# Altium footprint library VQFN_RHA.PcbLib: 1 footprints
Each footprint in its own frame and in the unit in brackets; x right, y up, seen from the top. Pads: shape width x height; smd on the part's side, far side on the other; paste and mask are expansions set on the pad; w line width, h text height; cw(c..) or ccw(c..) is an arc to the next point about the centre after c.
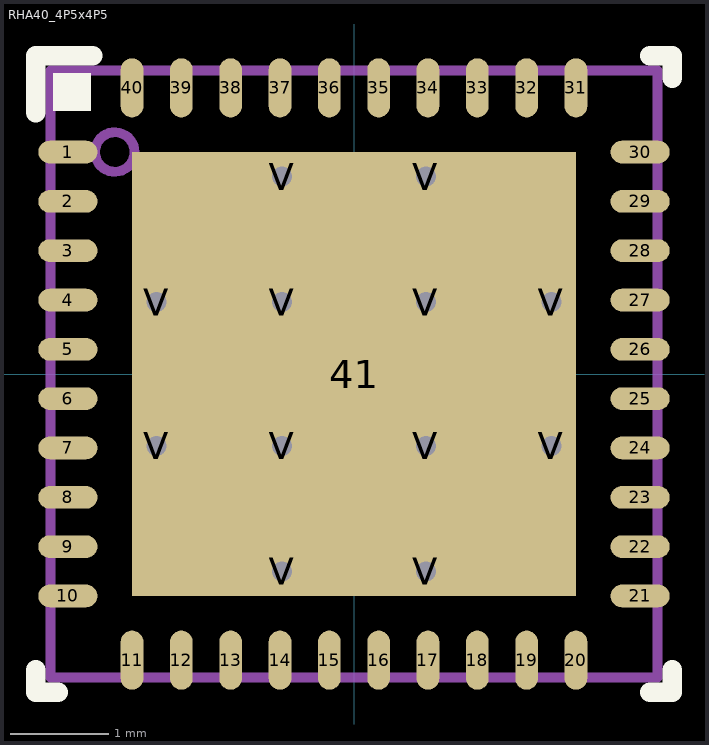
[diagram p0: the footprint, top view; thin cyan lines are the x and y axes]

## RHA40_4P5x4P5 [mm]
pads (53):
  oval 0.6x0.23 smd paste+0 mask+0.076: 1(-2.9,2.25) 2(-2.9,1.75) 3(-2.9,1.25) 4(-2.9,0.75) 5(-2.9,0.25) 6(-2.9,-0.25) 7(-2.9,-0.75) 8(-2.9,-1.25) 9(-2.9,-1.75) 10(-2.9,-2.25) 21(2.9,-2.25) 22(2.9,-1.75) 23(2.9,-1.25) 24(2.9,-0.75) 25(2.9,-0.25) 26(2.9,0.25) 27(2.9,0.75) 28(2.9,1.25) 29(2.9,1.75) 30(2.9,2.25)
  oval 0.23x0.6 smd paste+0 mask+0.076: 11(-2.25,-2.9) 12(-1.75,-2.9) 13(-1.25,-2.9) 14(-0.75,-2.9) 15(-0.25,-2.9) 16(0.25,-2.9) 17(0.75,-2.9) 18(1.25,-2.9) 19(1.75,-2.9) 20(2.25,-2.9) 31(2.25,2.9) 32(1.75,2.9) 33(1.25,2.9) 34(0.75,2.9) 35(0.25,2.9) 36(-0.25,2.9) 37(-0.75,2.9) 38(-1.25,2.9) 39(-1.75,2.9) 40(-2.25,2.9)
  rect 4.5x4.5 smd paste-2.237 mask+0.051: 41(0,0)
  round 0.5 hole 0.203 mask+0.051: V(-2,-0.727) V(-2,0.727) V(-0.727,-2) V(-0.727,-0.727) V(-0.727,0.727) V(-0.727,2) V(0.727,-2) V(0.727,-0.727) V(0.727,0.727) V(0.727,2) V(2,-0.727) V(2,0.727)
Top Overlay:
  region: -2.667,2.667 -3.048,2.667 -3.048,3.048 -2.667,3.048
  lines w0.2: -3.225,-3 -3.225,-3.225 -3,-3.225 ; -3.225,2.65 -3.225,3.225 -2.65,3.225 ; 3,-3.225 3.225,-3.225 3.225,-3 ; 3,3.225 3.225,3.225 3.225,3
Top Paste:
  region: -2.082,0.627 -2.082,-0.627 -0.827,-0.627 -0.827,0.627
  region: -0.627,0.627 -0.627,-0.627 0.627,-0.627 0.627,0.627
  region: -2.082,-0.827 -2.082,-2.082 -0.827,-2.082 -0.827,-0.827
  region: -2.082,2.082 -2.082,0.827 -0.827,0.827 -0.827,2.082
  region: -0.627,2.082 -0.627,0.827 0.627,0.827 0.627,2.082
  region: -0.627,-0.827 -0.627,-2.082 0.627,-2.082 0.627,-0.827
  region: 0.827,-0.827 0.827,-2.082 2.082,-2.082 2.082,-0.827
  region: 0.827,2.082 0.827,0.827 2.082,0.827 2.082,2.082
  region: 0.827,0.627 0.827,-0.627 2.082,-0.627 2.082,0.627
Mechanical 13:
  circle w0.1: c-2.425,2.25 r0.2
  lines w0.1: -3.075,-3.075 -3.075,3.075 3.075,3.075 3.075,-3.075 -3.075,-3.075
3D body "RHA0040H.stp": height 1, standoff 0, extent -3,-3 3,3